# EAGLE library part TPS25740BRGER (library power_module)
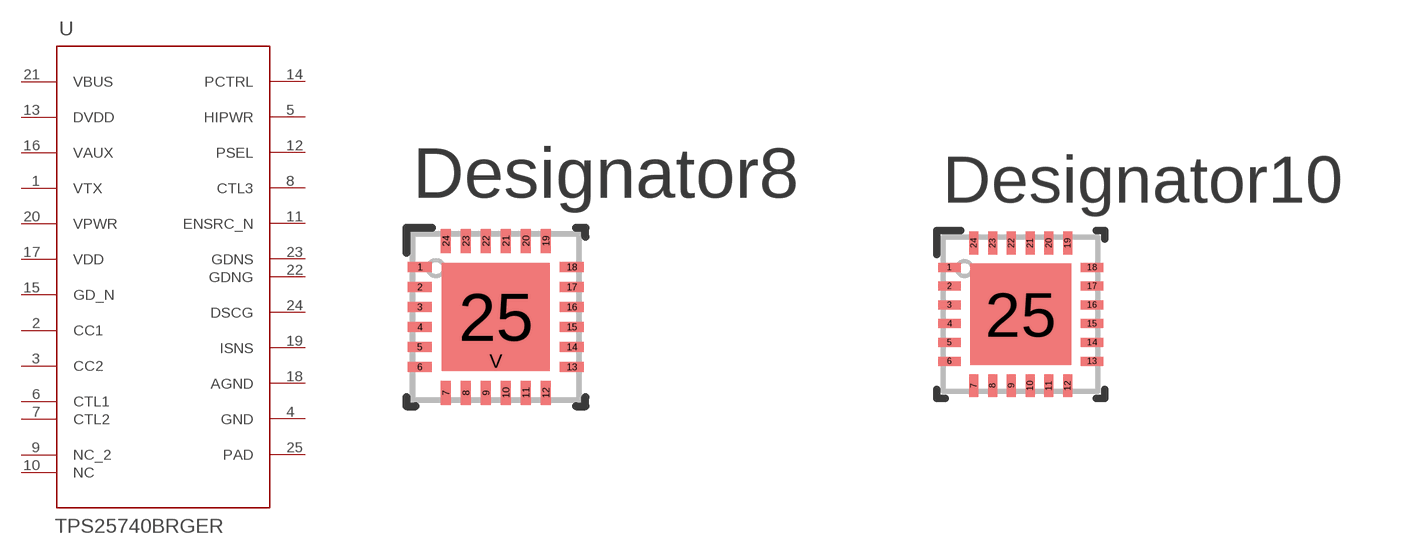
[diagram p2: symbol with the pads of RGE0024H; footprints RGE0024H, RGE0024H_NV]

Designator prefix U

## TPS25740BRGER  [RGE0024H]
1  VTX  pwr
2  CC1  pas
3  CC2  pas
4  GND  pwr
5  HIPWR  in
6  CTL1  out
7  CTL2  out
8  CTL3  pas
9  NC_2  pas
10  NC  pas
11  ENSRC_N  oc
12  PSEL  in
13  DVDD  pwr
14  PCTRL  in
15  GD_N  in
16  VAUX  pwr
17  VDD  pwr
18  AGND  pwr
19  ISNS  in
20  VPWR  pwr
21  VBUS  pwr
22  GDNG  oc
23  GDNS  oc
24  DSCG  oc
25  PAD  pwr

## TPS25740BRGERRGE0024H_NV  [RGE0024H_NV]
Pads as for RGE0024H

## Footprint RGE0024H (pad centres in mm)
smd 0.6 x 0.25: 1 -1.9,1.25; 2 -1.9,0.75; 3 -1.9,0.25; 4 -1.9,-0.25; 5 -1.9,-0.75; 6 -1.9,-1.25; 13 1.9,-1.25; 14 1.9,-0.75; 15 1.9,-0.25; 16 1.9,0.25; 17 1.9,0.75; 18 1.9,1.25
smd 0.25 x 0.6: 7 -1.25,-1.9; 8 -0.75,-1.9; 9 -0.25,-1.9; 10 0.25,-1.9; 11 0.75,-1.9; 12 1.25,-1.9; 19 1.25,1.9; 20 0.75,1.9; 21 0.25,1.9; 22 -0.25,1.9; 23 -0.75,1.9; 24 -1.25,1.9
smd 2.7 x 2.7: 25 0,0
smd 0.5 x 0.5: V 0,-1.1

## Footprint RGE0024H_NV (pad centres in mm)
smd 0.6 x 0.24: 1 -1.9,1.25; 2 -1.9,0.75; 3 -1.9,0.25; 4 -1.9,-0.25; 5 -1.9,-0.75; 6 -1.9,-1.25; 13 1.9,-1.25; 14 1.9,-0.75; 15 1.9,-0.25; 16 1.9,0.25; 17 1.9,0.75; 18 1.9,1.25
smd 0.24 x 0.6: 7 -1.25,-1.9; 8 -0.75,-1.9; 9 -0.25,-1.9; 10 0.25,-1.9; 11 0.75,-1.9; 12 1.25,-1.9; 19 1.25,1.9; 20 0.75,1.9; 21 0.25,1.9; 22 -0.25,1.9; 23 -0.75,1.9; 24 -1.25,1.9
smd 2.7 x 2.7: 25 0,0